# EAGLE library part ATMEGA406 (library magzor)
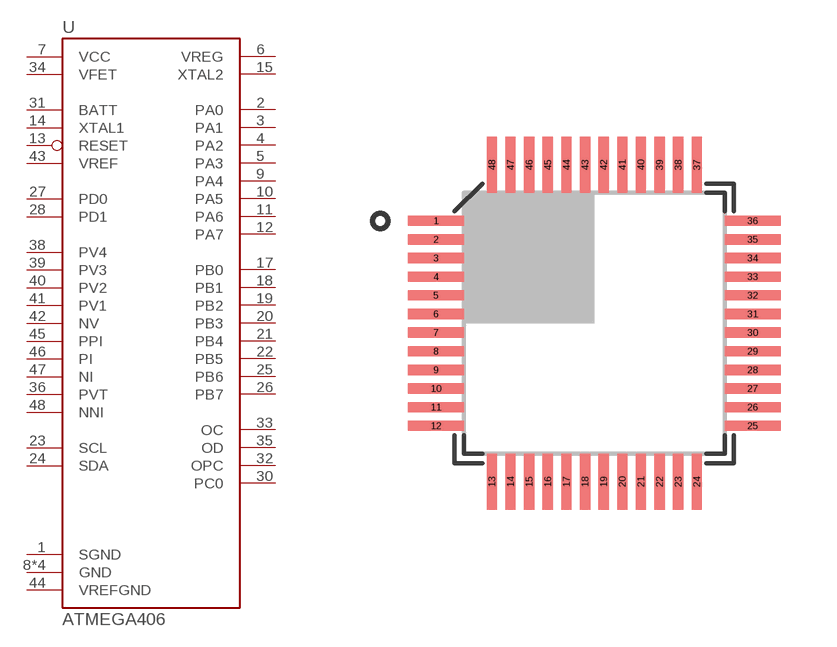
[diagram p38: symbol with the pads of QFP48; footprint QFP48]

Designator prefix U

## ATMEGA406*AAU  [QFP48]
1  SGND  pas
2  PA0
3  PA1
4  PA2
5  PA3
6  VREG
7  VCC  pwr
8  GND  pas
9  PA4
10  PA5
11  PA6
12  PA7
13  RESET  in
14  XTAL1  in
15  XTAL2  out
16  GND  pas
17  PB0
18  PB1
19  PB2
20  PB3
21  PB4
22  PB5
23  SCL
24  SDA
25  PB6
26  PB7
27  PD0
28  PD1
29  GND  pas
30  PC0
31  BATT  in
32  OPC  out
33  OC  out
34  VFET  pwr
35  OD  out
36  PVT  in
37  GND  pas
38  PV4  in
39  PV3  in
40  PV2  in
41  PV1  in
42  NV  in
43  VREF  pwr
44  VREFGND  pas
45  PPI  in
46  PI  in
47  NI  in
48  NNI  in

## Footprint QFP48 (pad centres in mm)
smd 1.5 x 0.275: 1 -4.25,2.75; 2 -4.25,2.25; 3 -4.25,1.75; 4 -4.25,1.25; 5 -4.25,0.75; 6 -4.25,0.25; 7 -4.25,-0.25; 8 -4.25,-0.75; 9 -4.25,-1.25; 10 -4.25,-1.75; 11 -4.25,-2.25; 12 -4.25,-2.75; 25 4.25,-2.75; 26 4.25,-2.25; 27 4.25,-1.75; 28 4.25,-1.25; 29 4.25,-0.75; 30 4.25,-0.25; 31 4.25,0.25; 32 4.25,0.75; 33 4.25,1.25; 34 4.25,1.75; 35 4.25,2.25; 36 4.25,2.75
smd 0.275 x 1.5: 13 -2.75,-4.25; 14 -2.25,-4.25; 15 -1.75,-4.25; 16 -1.25,-4.25; 17 -0.75,-4.25; 18 -0.25,-4.25; 19 0.25,-4.25; 20 0.75,-4.25; 21 1.25,-4.25; 22 1.75,-4.25; 23 2.25,-4.25; 24 2.75,-4.25; 37 2.75,4.25; 38 2.25,4.25; 39 1.75,4.25; 40 1.25,4.25; 41 0.75,4.25; 42 0.25,4.25; 43 -0.25,4.25; 44 -0.75,4.25; 45 -1.25,4.25; 46 -1.75,4.25; 47 -2.25,4.25; 48 -2.75,4.25